# EAGLE library part VCNL4100 (library pimoroni-optoelectronics)
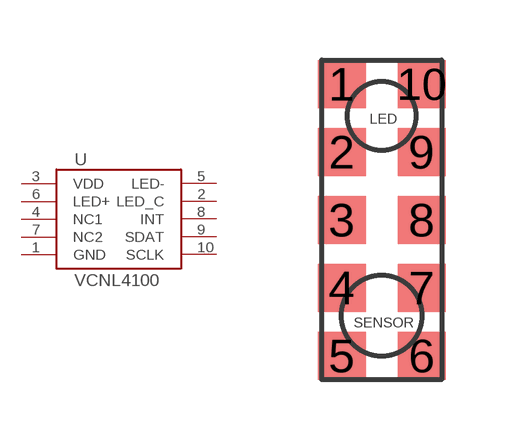
[diagram p5: symbol with the pads of VNCL4100; footprint VNCL4100]

Designator prefix U

## VCNL4100  [VNCL4100]
1  GND
2  LED_C
3  VDD
4  NC1  nc
5  LED-
6  LED+
7  NC2  nc
8  INT
9  SDAT
10  SCLK

## Footprint VNCL4100 (pad centres in mm)
smd 1.2 x 1.2: 1 -1,3.4; 2 -1,1.7; 3 -1,0; 4 -1,-1.7; 5 -1,-3.4; 6 1,-3.4; 7 1,-1.7; 8 1,0; 9 1,1.7; 10 1,3.4